# EAGLE library part BEAGLEBOARD (library beagleboard)
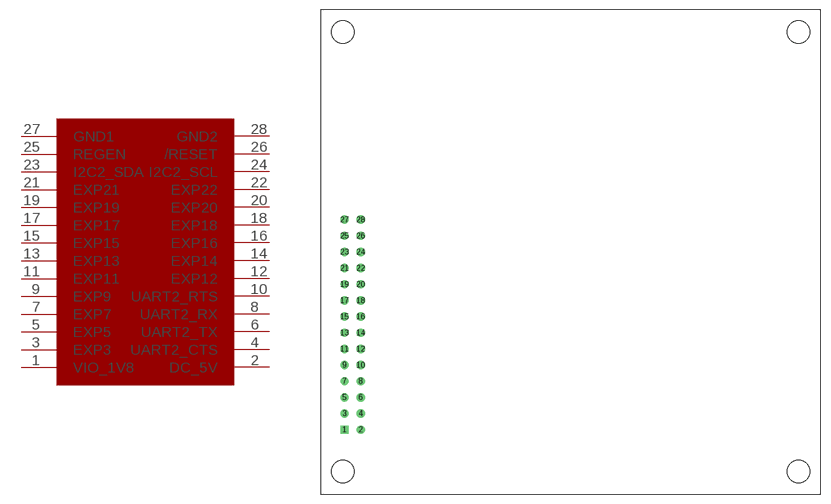
[diagram p0: symbol with the pads of BEAGLEBOARD; footprint BEAGLEBOARD]

Designator prefix BB

## BEAGLEBOARD  [BEAGLEBOARD]
1  VIO_1V8
2  DC_5V
3  EXP3
4  UART2_CTS
5  EXP5
6  UART2_TX
7  EXP7
8  UART2_RX
9  EXP9
10  UART2_RTS
11  EXP11
12  EXP12
13  EXP13
14  EXP14
15  EXP15
16  EXP16
17  EXP17
18  EXP18
19  EXP19
20  EXP20
21  EXP21
22  EXP22
23  I2C2_SDA
24  I2C2_SCL
25  REGEN
26  /RESET
27  GND1
28  GND2

## Footprint BEAGLEBOARD (pad centres in mm)
drill 0.8 square: 1 3.81,10.16
drill 0.8: 2 6.35,10.16; 3 3.81,12.7; 4 6.35,12.7; 5 3.81,15.24; 6 6.35,15.24; 7 3.81,17.78; 8 6.35,17.78; 9 3.81,20.32; 10 6.35,20.32; 11 3.81,22.86; 12 6.35,22.86; 13 3.81,25.4; 14 6.35,25.4; 15 3.81,27.94; 16 6.35,27.94; 17 3.81,30.48; 18 6.35,30.48; 19 3.81,33.02; 20 6.35,33.02; 21 3.81,35.56; 22 6.35,35.56; 23 3.81,38.1; 24 6.35,38.1; 25 3.81,40.64; 26 6.35,40.64; 27 3.81,43.18; 28 6.35,43.18
hole 3.556 at 3.556,3.556
hole 3.556 at 3.556,72.644
hole 3.556 at 75.184,72.644
hole 3.556 at 75.184,3.556